# EAGLE library part FDC6330L (library IC)
Fairchild 2.5A Integrated Load Switch
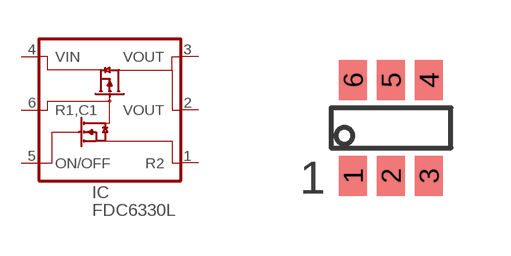
[diagram p160: symbol with the pads of SOT23-6; footprint SOT23-6]

Designator prefix IC

## FDC6330L  [SOT23-6]
1  R2
2  VOUT
3  VOUT
4  VIN
5  ON/OFF
6  R1,C1

## Footprint SOT23-6 (pad centres in mm)
smd 0.7 x 1: 1 -0.95,-1.2; 2 0,-1.2; 3 0.95,-1.2; 4 0.95,1.2; 5 0,1.2; 6 -0.95,1.2